# EAGLE library part HDR-1X10 (library con-hdrs40)
HEADER CONNECTOR
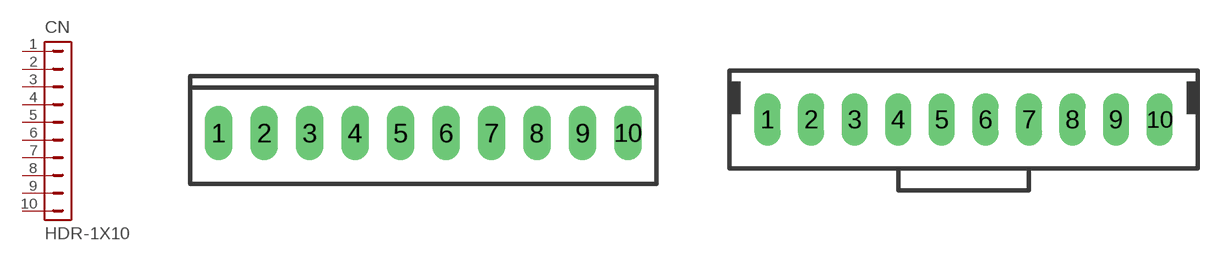
[diagram p4: symbol with the pads of MTA-100-10V; footprints MTA-100-10V, MTE-100-10VL]

Designator prefix CN

## HDR-1X10-MTA-100  [MTA-100-10V]
1  1  pas
2  2  pas
3  3  pas
4  4  pas
5  5  pas
6  6  pas
7  7  pas
8  8  pas
9  9  pas
10  10  pas

## HDR-1X10-MTE-100-L  [MTE-100-10VL]
Pads as for MTA-100-10V

## HDR-1X10-SIP-100  [SIP-100-10V]
Pads as for MTA-100-10V

## HDR-1X10-MTE-100  [MTE-100-10V]
Pads as for MTA-100-10V

## HDR-1X10-15-91-?  [15-91-10]
Pads as for MTA-100-10V

## HDR-1X10-70543-?  [70543-10]
Pads as for MTA-100-10V

## HDR-1X10-70553-?  [70553-10]
Pads as for MTA-100-10V

## HDR-1X10-FH21-10  [FH21-10]
Pads as for MTA-100-10V

## Footprint MTA-100-10V (pad centres in mm)
AMP MTA Vertical .100" 10 pin
drill 1.016 long: 1 -11.43,0; 2 -8.89,0; 3 -6.35,0; 4 -3.81,0; 5 -1.27,0; 6 1.27,0; 7 3.81,0; 8 6.35,0; 9 8.89,0; 10 11.43,0

## Footprint MTE-100-10VL (pad centres in mm)
AMP MTE Vertical .100" 10 pin w/latch
drill 1.016 long: 1 -11.43,0; 2 -8.89,0; 3 -6.35,0; 4 -3.81,0; 5 -1.27,0; 6 1.27,0; 7 3.81,0; 8 6.35,0; 9 8.89,0; 10 11.43,0

## Footprint SIP-100-10V (pad centres in mm)
SIP Header Vertical 100" 10 pin
drill 1.016 long: 1 -11.43,0; 2 -8.89,0; 3 -6.35,0; 4 -3.81,0; 5 -1.27,0; 6 1.27,0; 7 3.81,0; 8 6.35,0; 9 8.89,0; 10 11.43,0

## Footprint MTE-100-10V (pad centres in mm)
AMP MTE Vertical .100" 10 pin
drill 1.016 long: 1 -11.43,0; 2 -8.89,0; 3 -6.35,0; 4 -3.81,0; 5 -1.27,0; 6 1.27,0; 7 3.81,0; 8 6.35,0; 9 8.89,0; 10 11.43,0

## Footprint 15-91-10 (pad centres in mm)
Molex C-Grid SL Connector right angle SMD, 10 pin
smd 1.651 x 5.334: 1 -11.43,-10.795; 2 -8.89,-10.795; 3 -6.35,-10.795; 4 -3.81,-10.795; 5 -1.27,-10.795; 6 1.27,-10.795; 7 3.81,-10.795; 8 6.35,-10.795; 9 8.89,-10.795; 10 11.43,-10.795
hole 3.404 at -12.827,0.838
hole 3.404 at 12.827,0.838

## Footprint 70543-10 (pad centres in mm)
Molex C-Grid SL Connector vertical, 10 pin
drill 1.016 long: 1 -11.43,0; 2 -8.89,0; 3 -6.35,0; 4 -3.81,0; 5 -1.27,0; 6 1.27,0; 7 3.81,0; 8 6.35,0; 9 8.89,0; 10 11.43,0

## Footprint 70553-10 (pad centres in mm)
Molex C-Grid SL Connector right angle, 10 pin
drill 1.092 long: 1 -11.43,-7.62; 2 -8.89,-7.62; 3 -6.35,-7.62; 4 -3.81,-7.62; 5 -1.27,-7.62; 6 1.27,-7.62; 7 3.81,-7.62; 8 6.35,-7.62; 9 8.89,-7.62; 10 11.43,-7.62

## Footprint FH21-10 (pad centres in mm)
Hirose FH21 1 MM Flex Connector right angle, 10 pin,
drill 0.813 square: 1 -4.5,-1
drill 0.813 round: 2 -3.5,1; 3 -2.5,-1; 4 -1.5,1; 5 -0.5,-1; 6 0.5,1; 7 1.5,-1; 8 2.5,1; 9 3.5,-1; 10 4.5,1